# Altium schematic symbol library MCU_Intel.SchLib: 26 symbols
Pins are listed as number, name and electrical type; pins without a type are passive.

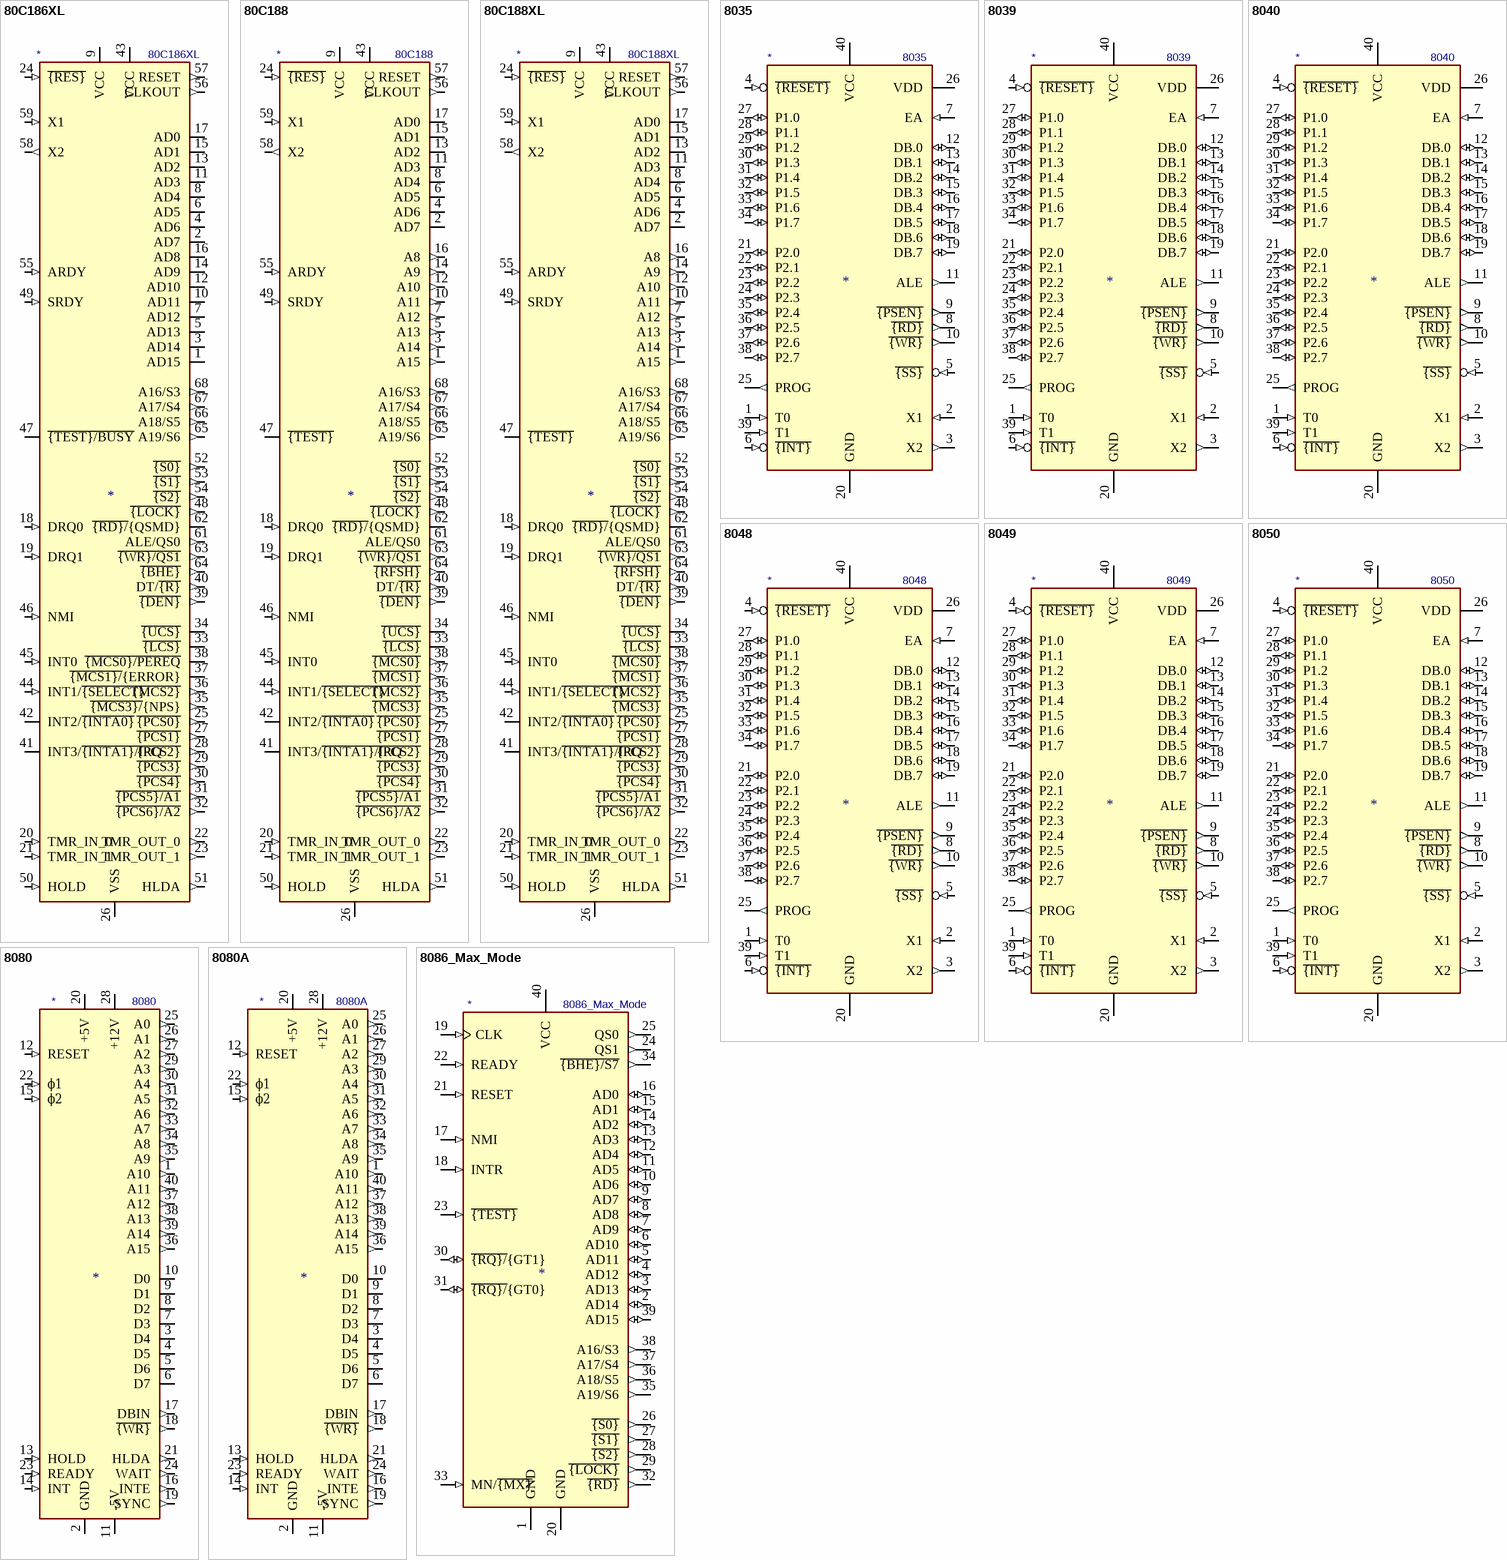
[diagram p0: symbols 80C186XL to 8086_Max_Mode]

## 80C186XL
designator *  value 80C186XL
ki_keywords: MPRO; ki_description: 16-Bit High-Integration Embedded Processor; ki_fp_filters: PLCC* PGA*Layout11x11*P2.54mm* LCC*; Supplier: http://datasheets.chipdb.org/Intel/x86/8018x/datashts/27243104.PDF
pins: 1 AD15 (io), 2 AD7 (io), 3 AD14 (io), 4 AD6 (io), 5 AD13 (io), 6 AD5 (io), 7 AD12 (io), 8 AD4 (io), 9 VCC (power), 10 AD11 (io), 11 AD3 (io), 12 AD10 (io), 13 AD2 (io), 14 AD9 (io), 15 AD1 (io), 16 AD8 (io), 17 AD0 (io), 18 DRQ0 (in), 19 DRQ1 (in), 20 TMR_IN_0 (in), 21 TMR_IN_1 (in), 22 TMR_OUT_0 (out), 23 TMR_OUT_1 (out), 24 ~{{RES}} (in), 25 ~{{PCS0}} (out), 26 VSS (power), 27 ~{{PCS1}} (out), 28 ~{{PCS2}} (out), 29 ~{{PCS3}} (out), 30 ~{{PCS4}} (out), 31 ~{{PCS5}/A1} (out), 32 ~{{PCS6}/A2} (out), 33 ~{{LCS}} (io), 34 ~{{UCS}} (io), 35 ~{{MCS3}/}{NPS} (out), 36 ~{{MCS2}} (out), 37 ~{{MCS1}/}{ERROR} (io), 38 ~{{MCS0}/PEREQ} (io), 39 ~{{DEN}} (out), 40 DT/~{{R}} (out), 41 INT3/~{{INTA1}/IRQ} (io), 42 INT2/~{{INTA0}} (io), 43 VCC (power), 44 INT1/~{{SELECT}} (in), 45 INT0 (in), 46 NMI (in), 47 ~{{TEST}/BUSY} (io), 48 ~{{LOCK}} (out), 49 SRDY (in), 50 HOLD (in), 51 HLDA (out), 52 ~{{S0}} (out), 53 ~{{S1}} (out), 54 ~{{S2}} (out), 55 ARDY (in), 56 CLKOUT (out), 57 RESET (out), 58 X2 (out), 59 X1 (in), 60 VSS hidden, 61 ALE/QS0 (out), 62 ~{{RD}/}{QSMD} (io), 63 ~{{WR}/QS1} (out), 64 ~{{BHE}} (out), 65 A19/S6 (out), 66 A18/S5 (out), 67 A17/S4 (out), 68 A16/S3 (out)

## 80C188
designator *  value 80C188
ki_keywords: MPRO; ki_description: CHMOS High-Integration 16-Bit Microprocessor; ki_fp_filters: PLCC* PGA*Layout11x11*P2.54mm* LCC*; Supplier: http://datasheets.chipdb.org/Intel/x86/8018x/datashts/80188/intel-80c188.pdf
pins: 1 A15 (out), 2 AD7 (io), 3 A14 (out), 4 AD6 (io), 5 A13 (out), 6 AD5 (io), 7 A12 (out), 8 AD4 (io), 9 VCC (power), 10 A11 (out), 11 AD3 (io), 12 A10 (out), 13 AD2 (io), 14 A9 (out), 15 AD1 (io), 16 A8 (out), 17 AD0 (io), 18 DRQ0 (in), 19 DRQ1 (in), 20 TMR_IN_0 (in), 21 TMR_IN_1 (in), 22 TMR_OUT_0 (out), 23 TMR_OUT_1 (out), 24 ~{{RES}} (in), 25 ~{{PCS0}} (out), 26 VSS (power), 27 ~{{PCS1}} (out), 28 ~{{PCS2}} (out), 29 ~{{PCS3}} (out), 30 ~{{PCS4}} (out), 31 ~{{PCS5}/A1} (out), 32 ~{{PCS6}/A2} (out), 33 ~{{LCS}} (io), 34 ~{{UCS}} (io), 35 ~{{MCS3}} (out), 36 ~{{MCS2}} (out), 37 ~{{MCS1}} (out), 38 ~{{MCS0}} (out), 39 ~{{DEN}} (out), 40 DT/~{{R}} (out), 41 INT3/~{{INTA1}/IRQ} (io), 42 INT2/~{{INTA0}} (io), 43 VCC (power), 44 INT1/~{{SELECT}} (in), 45 INT0 (in), 46 NMI (in), 47 ~{{TEST}} (io), 48 ~{{LOCK}} (out), 49 SRDY (in), 50 HOLD (in), 51 HLDA (out), 52 ~{{S0}} (out), 53 ~{{S1}} (out), 54 ~{{S2}} (out), 55 ARDY (in), 56 CLKOUT (out), 57 RESET (out), 58 X2 (out), 59 X1 (in), 60 VSS hidden, 61 ALE/QS0 (out), 62 ~{{RD}/}{QSMD} (io), 63 ~{{WR}/QS1} (out), 64 ~{{RFSH}} (out), 65 A19/S6 (out), 66 A18/S5 (out), 67 A17/S4 (out), 68 A16/S3 (out)

## 80C188XL
designator *  value 80C188XL
ki_keywords: MPRO; ki_description: 16-Bit High-Integration Embedded Processor; ki_fp_filters: PLCC* PGA*Layout11x11*P2.54mm* LCC*; Supplier: http://datasheets.chipdb.org/Intel/x86/8018x/datashts/27243104.PDF
pins: 1 A15 (out), 2 AD7 (io), 3 A14 (out), 4 AD6 (io), 5 A13 (out), 6 AD5 (io), 7 A12 (out), 8 AD4 (io), 9 VCC (power), 10 A11 (out), 11 AD3 (io), 12 A10 (out), 13 AD2 (io), 14 A9 (out), 15 AD1 (io), 16 A8 (out), 17 AD0 (io), 18 DRQ0 (in), 19 DRQ1 (in), 20 TMR_IN_0 (in), 21 TMR_IN_1 (in), 22 TMR_OUT_0 (out), 23 TMR_OUT_1 (out), 24 ~{{RES}} (in), 25 ~{{PCS0}} (out), 26 VSS (power), 27 ~{{PCS1}} (out), 28 ~{{PCS2}} (out), 29 ~{{PCS3}} (out), 30 ~{{PCS4}} (out), 31 ~{{PCS5}/A1} (out), 32 ~{{PCS6}/A2} (out), 33 ~{{LCS}} (io), 34 ~{{UCS}} (io), 35 ~{{MCS3}} (out), 36 ~{{MCS2}} (out), 37 ~{{MCS1}} (out), 38 ~{{MCS0}} (out), 39 ~{{DEN}} (out), 40 DT/~{{R}} (out), 41 INT3/~{{INTA1}/IRQ} (io), 42 INT2/~{{INTA0}} (io), 43 VCC (power), 44 INT1/~{{SELECT}} (in), 45 INT0 (in), 46 NMI (in), 47 ~{{TEST}} (io), 48 ~{{LOCK}} (out), 49 SRDY (in), 50 HOLD (in), 51 HLDA (out), 52 ~{{S0}} (out), 53 ~{{S1}} (out), 54 ~{{S2}} (out), 55 ARDY (in), 56 CLKOUT (out), 57 RESET (out), 58 X2 (out), 59 X1 (in), 60 VSS hidden, 61 ALE/QS0 (out), 62 ~{{RD}/}{QSMD} (io), 63 ~{{WR}/QS1} (out), 64 ~{{RFSH}} (out), 65 A19/S6 (out), 66 A18/S5 (out), 67 A17/S4 (out), 68 A16/S3 (out)

## 8035
designator *  value 8035
ki_keywords: MCS-48 uC Microcontroller; ki_description: MCS-48 8-bit Microcontroller, No (EP)ROM, 64B RAM, DIP-40; ki_fp_filters: DIP* PDIP*
pins: 1 T0 (in), 2 X1 (in), 3 X2 (out), 4 ~{{RESET}} (in), 5 ~{{SS}} (in), 6 ~{{INT}} (in), 7 EA (in), 8 ~{{RD}} (out), 9 ~{{PSEN}} (out), 10 ~{{WR}} (out), 11 ALE (out), 12 DB.0 (io), 13 DB.1 (io), 14 DB.2 (io), 15 DB.3 (io), 16 DB.4 (io), 17 DB.5 (io), 18 DB.6 (io), 19 DB.7 (io), 20 GND (power), 21 P2.0 (io), 22 P2.1 (io), 23 P2.2 (io), 24 P2.3 (io), 25 PROG (out), 26 VDD (power), 27 P1.0 (io), 28 P1.1 (io), 29 P1.2 (io), 30 P1.3 (io), 31 P1.4 (io), 32 P1.5 (io), 33 P1.6 (io), 34 P1.7 (io), 35 P2.4 (io), 36 P2.5 (io), 37 P2.6 (io), 38 P2.7 (io), 39 T1 (in), 40 VCC (power)

## 8039
designator *  value 8039
ki_keywords: MCS-48 uC Microcontroller; ki_description: MCS-48 8-bit Microcontroller, No (EP)ROM, 128B RAM, DIP-40; ki_fp_filters: DIP* PDIP*
pins: 1 T0 (in), 2 X1 (in), 3 X2 (out), 4 ~{{RESET}} (in), 5 ~{{SS}} (in), 6 ~{{INT}} (in), 7 EA (in), 8 ~{{RD}} (out), 9 ~{{PSEN}} (out), 10 ~{{WR}} (out), 11 ALE (out), 12 DB.0 (io), 13 DB.1 (io), 14 DB.2 (io), 15 DB.3 (io), 16 DB.4 (io), 17 DB.5 (io), 18 DB.6 (io), 19 DB.7 (io), 20 GND (power), 21 P2.0 (io), 22 P2.1 (io), 23 P2.2 (io), 24 P2.3 (io), 25 PROG (out), 26 VDD (power), 27 P1.0 (io), 28 P1.1 (io), 29 P1.2 (io), 30 P1.3 (io), 31 P1.4 (io), 32 P1.5 (io), 33 P1.6 (io), 34 P1.7 (io), 35 P2.4 (io), 36 P2.5 (io), 37 P2.6 (io), 38 P2.7 (io), 39 T1 (in), 40 VCC (power)

## 8040
designator *  value 8040
ki_keywords: MCS-48 uC Microcontroller; ki_description: MCS-48 8-bit Microcontroller, No (EP)ROM, 256B RAM, DIP-40; ki_fp_filters: DIP* PDIP*
pins: 1 T0 (in), 2 X1 (in), 3 X2 (out), 4 ~{{RESET}} (in), 5 ~{{SS}} (in), 6 ~{{INT}} (in), 7 EA (in), 8 ~{{RD}} (out), 9 ~{{PSEN}} (out), 10 ~{{WR}} (out), 11 ALE (out), 12 DB.0 (io), 13 DB.1 (io), 14 DB.2 (io), 15 DB.3 (io), 16 DB.4 (io), 17 DB.5 (io), 18 DB.6 (io), 19 DB.7 (io), 20 GND (power), 21 P2.0 (io), 22 P2.1 (io), 23 P2.2 (io), 24 P2.3 (io), 25 PROG (out), 26 VDD (power), 27 P1.0 (io), 28 P1.1 (io), 29 P1.2 (io), 30 P1.3 (io), 31 P1.4 (io), 32 P1.5 (io), 33 P1.6 (io), 34 P1.7 (io), 35 P2.4 (io), 36 P2.5 (io), 37 P2.6 (io), 38 P2.7 (io), 39 T1 (in), 40 VCC (power)

## 8048
designator *  value 8048
ki_keywords: MCS-48 uC Microcontroller; ki_description: MCS-48 8-bit Microcontroller, 1KB Mask ROM, 64B RAM, DIP-40; ki_fp_filters: DIP* PDIP*
pins: 1 T0 (in), 2 X1 (in), 3 X2 (out), 4 ~{{RESET}} (in), 5 ~{{SS}} (in), 6 ~{{INT}} (in), 7 EA (in), 8 ~{{RD}} (out), 9 ~{{PSEN}} (out), 10 ~{{WR}} (out), 11 ALE (out), 12 DB.0 (io), 13 DB.1 (io), 14 DB.2 (io), 15 DB.3 (io), 16 DB.4 (io), 17 DB.5 (io), 18 DB.6 (io), 19 DB.7 (io), 20 GND (power), 21 P2.0 (io), 22 P2.1 (io), 23 P2.2 (io), 24 P2.3 (io), 25 PROG (out), 26 VDD (power), 27 P1.0 (io), 28 P1.1 (io), 29 P1.2 (io), 30 P1.3 (io), 31 P1.4 (io), 32 P1.5 (io), 33 P1.6 (io), 34 P1.7 (io), 35 P2.4 (io), 36 P2.5 (io), 37 P2.6 (io), 38 P2.7 (io), 39 T1 (in), 40 VCC (power)

## 8049
designator *  value 8049
ki_keywords: MCS-48 uC Microcontroller; ki_description: MCS-48 8-bit Microcontroller, 2KB Mask ROM, 128B RAM, DIP-40; ki_fp_filters: DIP* PDIP*
pins: 1 T0 (in), 2 X1 (in), 3 X2 (out), 4 ~{{RESET}} (in), 5 ~{{SS}} (in), 6 ~{{INT}} (in), 7 EA (in), 8 ~{{RD}} (out), 9 ~{{PSEN}} (out), 10 ~{{WR}} (out), 11 ALE (out), 12 DB.0 (io), 13 DB.1 (io), 14 DB.2 (io), 15 DB.3 (io), 16 DB.4 (io), 17 DB.5 (io), 18 DB.6 (io), 19 DB.7 (io), 20 GND (power), 21 P2.0 (io), 22 P2.1 (io), 23 P2.2 (io), 24 P2.3 (io), 25 PROG (out), 26 VDD (power), 27 P1.0 (io), 28 P1.1 (io), 29 P1.2 (io), 30 P1.3 (io), 31 P1.4 (io), 32 P1.5 (io), 33 P1.6 (io), 34 P1.7 (io), 35 P2.4 (io), 36 P2.5 (io), 37 P2.6 (io), 38 P2.7 (io), 39 T1 (in), 40 VCC (power)

## 8050
designator *  value 8050
ki_keywords: MCS-48 uC Microcontroller; ki_description: MCS-48 8-bit Microcontroller, 4KB Mask ROM, 256B RAM, DIP-40; ki_fp_filters: DIP* PDIP*
pins: 1 T0 (in), 2 X1 (in), 3 X2 (out), 4 ~{{RESET}} (in), 5 ~{{SS}} (in), 6 ~{{INT}} (in), 7 EA (in), 8 ~{{RD}} (out), 9 ~{{PSEN}} (out), 10 ~{{WR}} (out), 11 ALE (out), 12 DB.0 (io), 13 DB.1 (io), 14 DB.2 (io), 15 DB.3 (io), 16 DB.4 (io), 17 DB.5 (io), 18 DB.6 (io), 19 DB.7 (io), 20 GND (power), 21 P2.0 (io), 22 P2.1 (io), 23 P2.2 (io), 24 P2.3 (io), 25 PROG (out), 26 VDD (power), 27 P1.0 (io), 28 P1.1 (io), 29 P1.2 (io), 30 P1.3 (io), 31 P1.4 (io), 32 P1.5 (io), 33 P1.6 (io), 34 P1.7 (io), 35 P2.4 (io), 36 P2.5 (io), 37 P2.6 (io), 38 P2.7 (io), 39 T1 (in), 40 VCC (power)

## 8080
designator *  value 8080
ki_keywords: cpu mpu microprocessor; ki_description: 8-bit N-channel Microprocessor, DIP-40; ki_fp_filters: DIP*W15.24*; Footprint: Package_DIP:DIP-40_W15.24mm; Supplier: http://datasheets.chipdb.org/Intel/MCS-80/intel-8080.pdf
footprint DIP-40_W15.24mm
pins: 1 A10 (out), 2 GND (power), 3 D4 (io), 4 D5 (io), 5 D6 (io), 6 D7 (io), 7 D3 (io), 8 D2 (io), 9 D1 (io), 10 D0 (io), 11 -5V (power), 12 RESET (in), 13 HOLD (in), 14 INT (in), 15 ϕ2 (in), 16 INTE (out), 17 DBIN (out), 18 ~{{WR}} (out), 19 SYNC (out), 20 +5V (power), 21 HLDA (out), 22 ϕ1 (in), 23 READY (in), 24 WAIT (out), 25 A0 (out), 26 A1 (out), 27 A2 (out), 28 +12V (power), 29 A3 (out), 30 A4 (out), 31 A5 (out), 32 A6 (out), 33 A7 (out), 34 A8 (out), 35 A9 (out), 36 A15 (out), 37 A12 (out), 38 A13 (out), 39 A14 (out), 40 A11 (out)

## 8080A
designator *  value 8080A
ki_keywords: cpu mpu microprocessor; ki_description: 8-bit N-channel Microprocessor, DIP-40; ki_fp_filters: DIP*W15.24*; Footprint: Package_DIP:DIP-40_W15.24mm; Supplier: http://datasheets.chipdb.org/Intel/MCS-80/intel-8080.pdf
footprint DIP-40_W15.24mm
pins: 1 A10 (out), 2 GND (power), 3 D4 (io), 4 D5 (io), 5 D6 (io), 6 D7 (io), 7 D3 (io), 8 D2 (io), 9 D1 (io), 10 D0 (io), 11 -5V (power), 12 RESET (in), 13 HOLD (in), 14 INT (in), 15 ϕ2 (in), 16 INTE (out), 17 DBIN (out), 18 ~{{WR}} (out), 19 SYNC (out), 20 +5V (power), 21 HLDA (out), 22 ϕ1 (in), 23 READY (in), 24 WAIT (out), 25 A0 (out), 26 A1 (out), 27 A2 (out), 28 +12V (power), 29 A3 (out), 30 A4 (out), 31 A5 (out), 32 A6 (out), 33 A7 (out), 34 A8 (out), 35 A9 (out), 36 A15 (out), 37 A12 (out), 38 A13 (out), 39 A14 (out), 40 A11 (out)

## 8086_Max_Mode
designator *  value 8086_Max_Mode
ki_keywords: MPRO; ki_description: 8086 (maximum mode), 16-Bit HMOS Microprocessor, PDIP-40; ki_fp_filters: DIP*W15.24mm*; Footprint: Package_DIP:DIP-40_W15.24mm; Supplier: http://datasheets.chipdb.org/Intel/x86/808x/datashts/8086/231455-006.pdf
footprint DIP-40_W15.24mm
pins: 1 GND (power), 2 AD14 (io), 3 AD13 (io), 4 AD12 (io), 5 AD11 (io), 6 AD10 (io), 7 AD9 (io), 8 AD8 (io), 9 AD7 (io), 10 AD6 (io), 11 AD5 (io), 12 AD4 (io), 13 AD3 (io), 14 AD2 (io), 15 AD1 (io), 16 AD0 (io), 17 NMI (in), 18 INTR (in), 19 CLK (in), 20 GND (power), 21 RESET (in), 22 READY (in), 23 ~{{TEST}} (in), 24 QS1 (out), 25 QS0 (out), 26 ~{{S0}} (out), 27 ~{{S1}} (out), 28 ~{{S2}} (out), 29 ~{{LOCK}} (out), 30 ~{{RQ}/}{GT1} (io), 31 ~{{RQ}/}{GT0} (io), 32 ~{{RD}} (out), 33 MN/~{{MX}} (in), 34 ~{{BHE}/S7} (out), 35 A19/S6 (out), 36 A18/S5 (out), 37 A17/S4 (out), 38 A16/S3 (out), 39 AD15 (io), 40 VCC (power)

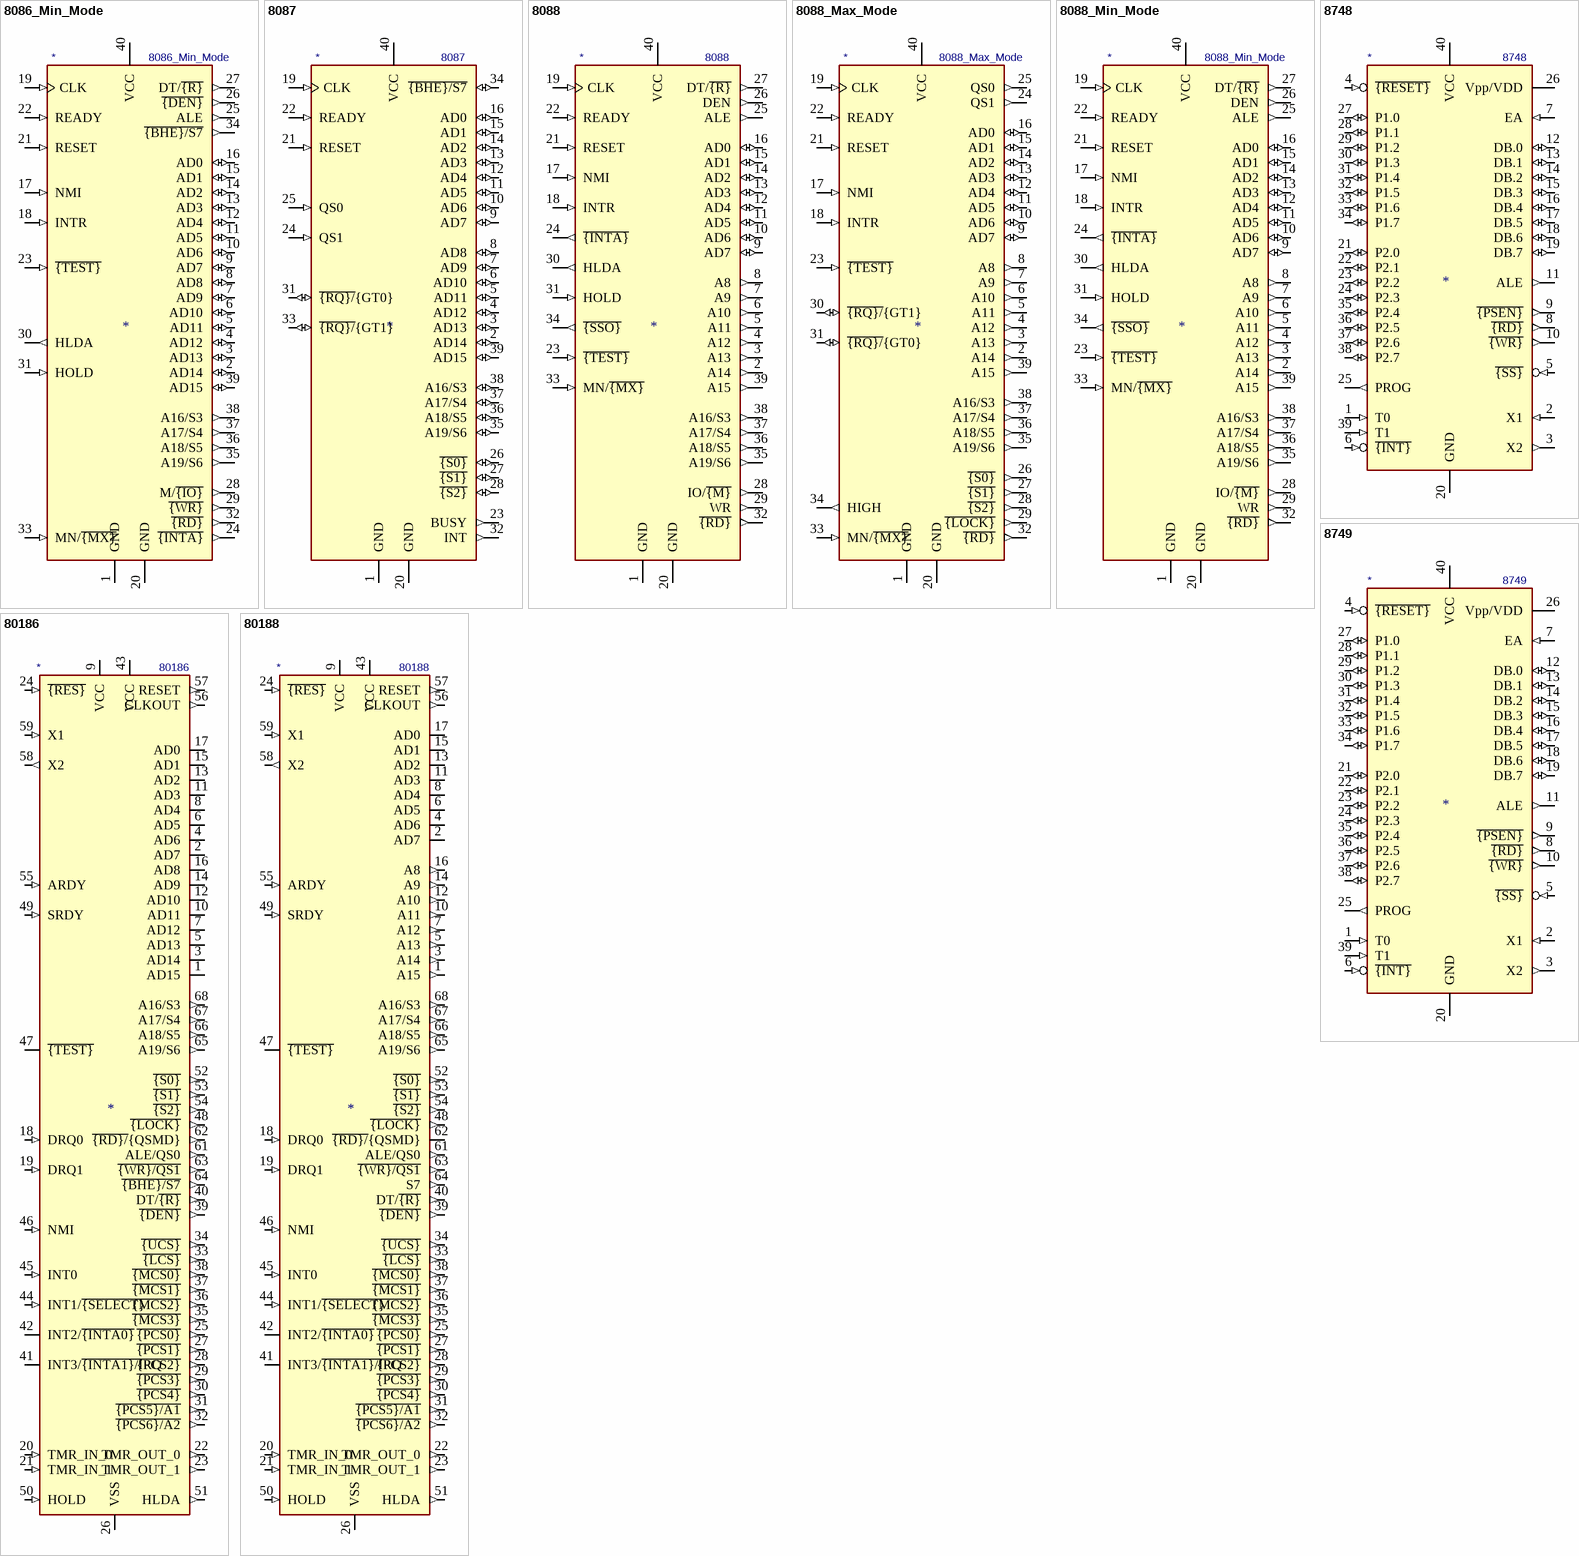
[diagram p1: symbols 8086_Min_Mode to 80188]

## 8086_Min_Mode
designator *  value 8086_Min_Mode
ki_keywords: MPRO; ki_description: 8086 (minimum mode), 16-Bit HMOS Microprocessor, PDIP-40; ki_fp_filters: DIP*W15.24mm*; Footprint: Package_DIP:DIP-40_W15.24mm; Supplier: http://datasheets.chipdb.org/Intel/x86/808x/datashts/8086/231455-006.pdf
footprint DIP-40_W15.24mm
pins: 1 GND (power), 2 AD14 (io), 3 AD13 (io), 4 AD12 (io), 5 AD11 (io), 6 AD10 (io), 7 AD9 (io), 8 AD8 (io), 9 AD7 (io), 10 AD6 (io), 11 AD5 (io), 12 AD4 (io), 13 AD3 (io), 14 AD2 (io), 15 AD1 (io), 16 AD0 (io), 17 NMI (in), 18 INTR (in), 19 CLK (in), 20 GND (power), 21 RESET (in), 22 READY (in), 23 ~{{TEST}} (in), 24 ~{{INTA}} (out), 25 ALE (out), 26 ~{{DEN}} (out), 27 DT/~{{R}} (out), 28 M/~{{IO}} (out), 29 ~{{WR}} (out), 30 HLDA (out), 31 HOLD (in), 32 ~{{RD}} (out), 33 MN/~{{MX}} (in), 34 ~{{BHE}/S7} (out), 35 A19/S6 (out), 36 A18/S5 (out), 37 A17/S4 (out), 38 A16/S3 (out), 39 AD15 (io), 40 VCC (power)

## 8087
designator *  value 8087
ki_keywords: FPU; ki_description: Math Coprocessor for Intel 8086/8088/80186/80188 microprocessors, PDIP-40; ki_fp_filters: DIP*W15.24mm*; Footprint: Package_DIP:DIP-40_W15.24mm; Supplier: http://datasheets.chipdb.org/Intel/x86/808x/datashts/8087/205835-007.pdf
footprint DIP-40_W15.24mm
pins: 1 GND (power), 2 AD14 (io), 3 AD13 (io), 4 AD12 (io), 5 AD11 (io), 6 AD10 (io), 7 AD9 (io), 8 AD8 (io), 9 AD7 (io), 10 AD6 (io), 11 AD5 (io), 12 AD4 (io), 13 AD3 (io), 14 AD2 (io), 15 AD1 (io), 16 AD0 (io), 17 NC (in) hidden, 18 NC (in) hidden, 19 CLK (in), 20 GND (power), 21 RESET (in), 22 READY (in), 23 BUSY (out), 24 QS1 (in), 25 QS0 (in), 26 ~{{S0}} (io), 27 ~{{S1}} (io), 28 ~{{S2}} (io), 29 NC (in) hidden, 30 NC (in) hidden, 31 ~{{RQ}/}{GT0} (io), 32 INT (out), 33 ~{{RQ}/}{GT1} (io), 34 ~{{BHE}/S7} (io), 35 A19/S6 (io), 36 A18/S5 (io), 37 A17/S4 (io), 38 A16/S3 (io), 39 AD15 (io), 40 VCC (power)

## 8088
designator *  value 8088
ki_keywords: MPRO; ki_description: 8088 (minimum mode), 8-Bit HMOS Microprocessor, PDIP-40; ki_fp_filters: DIP*W15.24mm*; Footprint: Package_DIP:DIP-40_W15.24mm; Supplier: http://datasheets.chipdb.org/Intel/x86/808x/datashts/8088/231456-006.pdf
footprint DIP-40_W15.24mm
pins: 1 GND (power), 2 A14 (out), 3 A13 (out), 4 A12 (out), 5 A11 (out), 6 A10 (out), 7 A9 (out), 8 A8 (out), 9 AD7 (io), 10 AD6 (io), 11 AD5 (io), 12 AD4 (io), 13 AD3 (io), 14 AD2 (io), 15 AD1 (io), 16 AD0 (io), 17 NMI (in), 18 INTR (in), 19 CLK (in), 20 GND (power), 21 RESET (in), 22 READY (in), 23 ~{{TEST}} (in), 24 ~{{INTA}} (out), 25 ALE (out), 26 DEN (out), 27 DT/~{{R}} (out), 28 IO/~{{M}} (out), 29 WR (out), 30 HLDA (out), 31 HOLD (in), 32 ~{{RD}} (out), 33 MN/~{{MX}} (in), 34 ~{{SSO}} (out), 35 A19/S6 (out), 36 A18/S5 (out), 37 A17/S4 (out), 38 A16/S3 (out), 39 A15 (out), 40 VCC (power)

## 8088_Max_Mode
designator *  value 8088_Max_Mode
ki_keywords: MPRO; ki_description: 8088 (maximum mode), 8-Bit HMOS Microprocessor, PDIP-40; ki_fp_filters: DIP*W15.24mm*; Footprint: Package_DIP:DIP-40_W15.24mm; Supplier: http://datasheets.chipdb.org/Intel/x86/808x/datashts/8088/231456-006.pdf
footprint DIP-40_W15.24mm
pins: 1 GND (power), 2 A14 (out), 3 A13 (out), 4 A12 (out), 5 A11 (out), 6 A10 (out), 7 A9 (out), 8 A8 (out), 9 AD7 (io), 10 AD6 (io), 11 AD5 (io), 12 AD4 (io), 13 AD3 (io), 14 AD2 (io), 15 AD1 (io), 16 AD0 (io), 17 NMI (in), 18 INTR (in), 19 CLK (in), 20 GND (power), 21 RESET (in), 22 READY (in), 23 ~{{TEST}} (in), 24 QS1 (out), 25 QS0 (out), 26 ~{{S0}} (out), 27 ~{{S1}} (out), 28 ~{{S2}} (out), 29 ~{{LOCK}} (out), 30 ~{{RQ}/}{GT1} (io), 31 ~{{RQ}/}{GT0} (io), 32 ~{{RD}} (out), 33 MN/~{{MX}} (in), 34 HIGH (out), 35 A19/S6 (out), 36 A18/S5 (out), 37 A17/S4 (out), 38 A16/S3 (out), 39 A15 (out), 40 VCC (power)

## 8088_Min_Mode
designator *  value 8088_Min_Mode
ki_keywords: MPRO; ki_description: 8088 (minimum mode), 8-Bit HMOS Microprocessor, PDIP-40; ki_fp_filters: DIP*W15.24mm*; Footprint: Package_DIP:DIP-40_W15.24mm; Supplier: http://datasheets.chipdb.org/Intel/x86/808x/datashts/8088/231456-006.pdf
footprint DIP-40_W15.24mm
pins: 1 GND (power), 2 A14 (out), 3 A13 (out), 4 A12 (out), 5 A11 (out), 6 A10 (out), 7 A9 (out), 8 A8 (out), 9 AD7 (io), 10 AD6 (io), 11 AD5 (io), 12 AD4 (io), 13 AD3 (io), 14 AD2 (io), 15 AD1 (io), 16 AD0 (io), 17 NMI (in), 18 INTR (in), 19 CLK (in), 20 GND (power), 21 RESET (in), 22 READY (in), 23 ~{{TEST}} (in), 24 ~{{INTA}} (out), 25 ALE (out), 26 DEN (out), 27 DT/~{{R}} (out), 28 IO/~{{M}} (out), 29 WR (out), 30 HLDA (out), 31 HOLD (in), 32 ~{{RD}} (out), 33 MN/~{{MX}} (in), 34 ~{{SSO}} (out), 35 A19/S6 (out), 36 A18/S5 (out), 37 A17/S4 (out), 38 A16/S3 (out), 39 A15 (out), 40 VCC (power)

## 8748
designator *  value 8748
ki_keywords: MCS-48 uC Microcontroller; ki_description: i8748, MCS-48 8-bit Microcontroller with Internal EPROM, 1KB EPROM, 64B RAM, DIP-40; ki_fp_filters: DIP* PDIP*
pins: 1 T0 (in), 2 X1 (in), 3 X2 (out), 4 ~{{RESET}} (in), 5 ~{{SS}} (in), 6 ~{{INT}} (in), 7 EA (in), 8 ~{{RD}} (out), 9 ~{{PSEN}} (out), 10 ~{{WR}} (out), 11 ALE (out), 12 DB.0 (io), 13 DB.1 (io), 14 DB.2 (io), 15 DB.3 (io), 16 DB.4 (io), 17 DB.5 (io), 18 DB.6 (io), 19 DB.7 (io), 20 GND (power), 21 P2.0 (io), 22 P2.1 (io), 23 P2.2 (io), 24 P2.3 (io), 25 PROG (out), 26 Vpp/VDD (power), 27 P1.0 (io), 28 P1.1 (io), 29 P1.2 (io), 30 P1.3 (io), 31 P1.4 (io), 32 P1.5 (io), 33 P1.6 (io), 34 P1.7 (io), 35 P2.4 (io), 36 P2.5 (io), 37 P2.6 (io), 38 P2.7 (io), 39 T1 (in), 40 VCC (power)

## 8749
designator *  value 8749
ki_keywords: MCS-48 uC Microcontroller; ki_description: i8748, MCS-48 8-bit Microcontroller with Internal EPROM, 2KB EPROM, 128B RAM, DIP-40; ki_fp_filters: DIP* PDIP*
pins: 1 T0 (in), 2 X1 (in), 3 X2 (out), 4 ~{{RESET}} (in), 5 ~{{SS}} (in), 6 ~{{INT}} (in), 7 EA (in), 8 ~{{RD}} (out), 9 ~{{PSEN}} (out), 10 ~{{WR}} (out), 11 ALE (out), 12 DB.0 (io), 13 DB.1 (io), 14 DB.2 (io), 15 DB.3 (io), 16 DB.4 (io), 17 DB.5 (io), 18 DB.6 (io), 19 DB.7 (io), 20 GND (power), 21 P2.0 (io), 22 P2.1 (io), 23 P2.2 (io), 24 P2.3 (io), 25 PROG (out), 26 Vpp/VDD (power), 27 P1.0 (io), 28 P1.1 (io), 29 P1.2 (io), 30 P1.3 (io), 31 P1.4 (io), 32 P1.5 (io), 33 P1.6 (io), 34 P1.7 (io), 35 P2.4 (io), 36 P2.5 (io), 37 P2.6 (io), 38 P2.7 (io), 39 T1 (in), 40 VCC (power)

## 80186
designator *  value 80186
ki_keywords: MPRO; ki_description: High-Integration 16-Bit Microprocessor; ki_fp_filters: PLCC* PGA*Layout11x11*P2.54mm* LCC*; Supplier: http://datasheets.chipdb.org/Intel/x86/8018x/datashts/27243002.PDF
pins: 1 AD15 (io), 2 AD7 (io), 3 AD14 (io), 4 AD6 (io), 5 AD13 (io), 6 AD5 (io), 7 AD12 (io), 8 AD4 (io), 9 VCC (power), 10 AD11 (io), 11 AD3 (io), 12 AD10 (io), 13 AD2 (io), 14 AD9 (io), 15 AD1 (io), 16 AD8 (io), 17 AD0 (io), 18 DRQ0 (in), 19 DRQ1 (in), 20 TMR_IN_0 (in), 21 TMR_IN_1 (in), 22 TMR_OUT_0 (out), 23 TMR_OUT_1 (out), 24 ~{{RES}} (in), 25 ~{{PCS0}} (out), 26 VSS (power), 27 ~{{PCS1}} (out), 28 ~{{PCS2}} (out), 29 ~{{PCS3}} (out), 30 ~{{PCS4}} (out), 31 ~{{PCS5}/A1} (out), 32 ~{{PCS6}/A2} (out), 33 ~{{LCS}} (out), 34 ~{{UCS}} (out), 35 ~{{MCS3}} (out), 36 ~{{MCS2}} (out), 37 ~{{MCS1}} (out), 38 ~{{MCS0}} (out), 39 ~{{DEN}} (out), 40 DT/~{{R}} (out), 41 INT3/~{{INTA1}/IRQ} (io), 42 INT2/~{{INTA0}} (io), 43 VCC (power), 44 INT1/~{{SELECT}} (in), 45 INT0 (in), 46 NMI (in), 47 ~{{TEST}} (io), 48 ~{{LOCK}} (out), 49 SRDY (in), 50 HOLD (in), 51 HLDA (out), 52 ~{{S0}} (out), 53 ~{{S1}} (out), 54 ~{{S2}} (out), 55 ARDY (in), 56 CLKOUT (out), 57 RESET (out), 58 X2 (out), 59 X1 (in), 60 VSS hidden, 61 ALE/QS0 (out), 62 ~{{RD}/}{QSMD} (out), 63 ~{{WR}/QS1} (out), 64 ~{{BHE}/S7} (out), 65 A19/S6 (out), 66 A18/S5 (out), 67 A17/S4 (out), 68 A16/S3 (out)

## 80188
designator *  value 80188
ki_keywords: MPRO; ki_description: High-Integration 16-Bit Microprocessor; ki_fp_filters: PLCC* PGA*Layout11x11*P2.54mm* LCC*; Supplier: http://datasheets.chipdb.org/Intel/x86/8018x/datashts/27243002.PDF
pins: 1 A15 (out), 2 AD7 (io), 3 A14 (out), 4 AD6 (io), 5 A13 (out), 6 AD5 (io), 7 A12 (out), 8 AD4 (io), 9 VCC (power), 10 A11 (out), 11 AD3 (io), 12 A10 (out), 13 AD2 (io), 14 A9 (out), 15 AD1 (io), 16 A8 (out), 17 AD0 (io), 18 DRQ0 (in), 19 DRQ1 (in), 20 TMR_IN_0 (in), 21 TMR_IN_1 (in), 22 TMR_OUT_0 (out), 23 TMR_OUT_1 (out), 24 ~{{RES}} (in), 25 ~{{PCS0}} (out), 26 VSS (power), 27 ~{{PCS1}} (out), 28 ~{{PCS2}} (out), 29 ~{{PCS3}} (out), 30 ~{{PCS4}} (out), 31 ~{{PCS5}/A1} (out), 32 ~{{PCS6}/A2} (out), 33 ~{{LCS}} (out), 34 ~{{UCS}} (out), 35 ~{{MCS3}} (out), 36 ~{{MCS2}} (out), 37 ~{{MCS1}} (out), 38 ~{{MCS0}} (out), 39 ~{{DEN}} (out), 40 DT/~{{R}} (out), 41 INT3/~{{INTA1}/IRQ} (io), 42 INT2/~{{INTA0}} (io), 43 VCC (power), 44 INT1/~{{SELECT}} (in), 45 INT0 (in), 46 NMI (in), 47 ~{{TEST}} (io), 48 ~{{LOCK}} (out), 49 SRDY (in), 50 HOLD (in), 51 HLDA (out), 52 ~{{S0}} (out), 53 ~{{S1}} (out), 54 ~{{S2}} (out), 55 ARDY (in), 56 CLKOUT (out), 57 RESET (out), 58 X2 (out), 59 X1 (in), 60 VSS hidden, 61 ALE/QS0 (out), 62 ~{{RD}/}{QSMD} (io), 63 ~{{WR}/QS1} (out), 64 S7 (out), 65 A19/S6 (out), 66 A18/S5 (out), 67 A17/S4 (out), 68 A16/S3 (out)

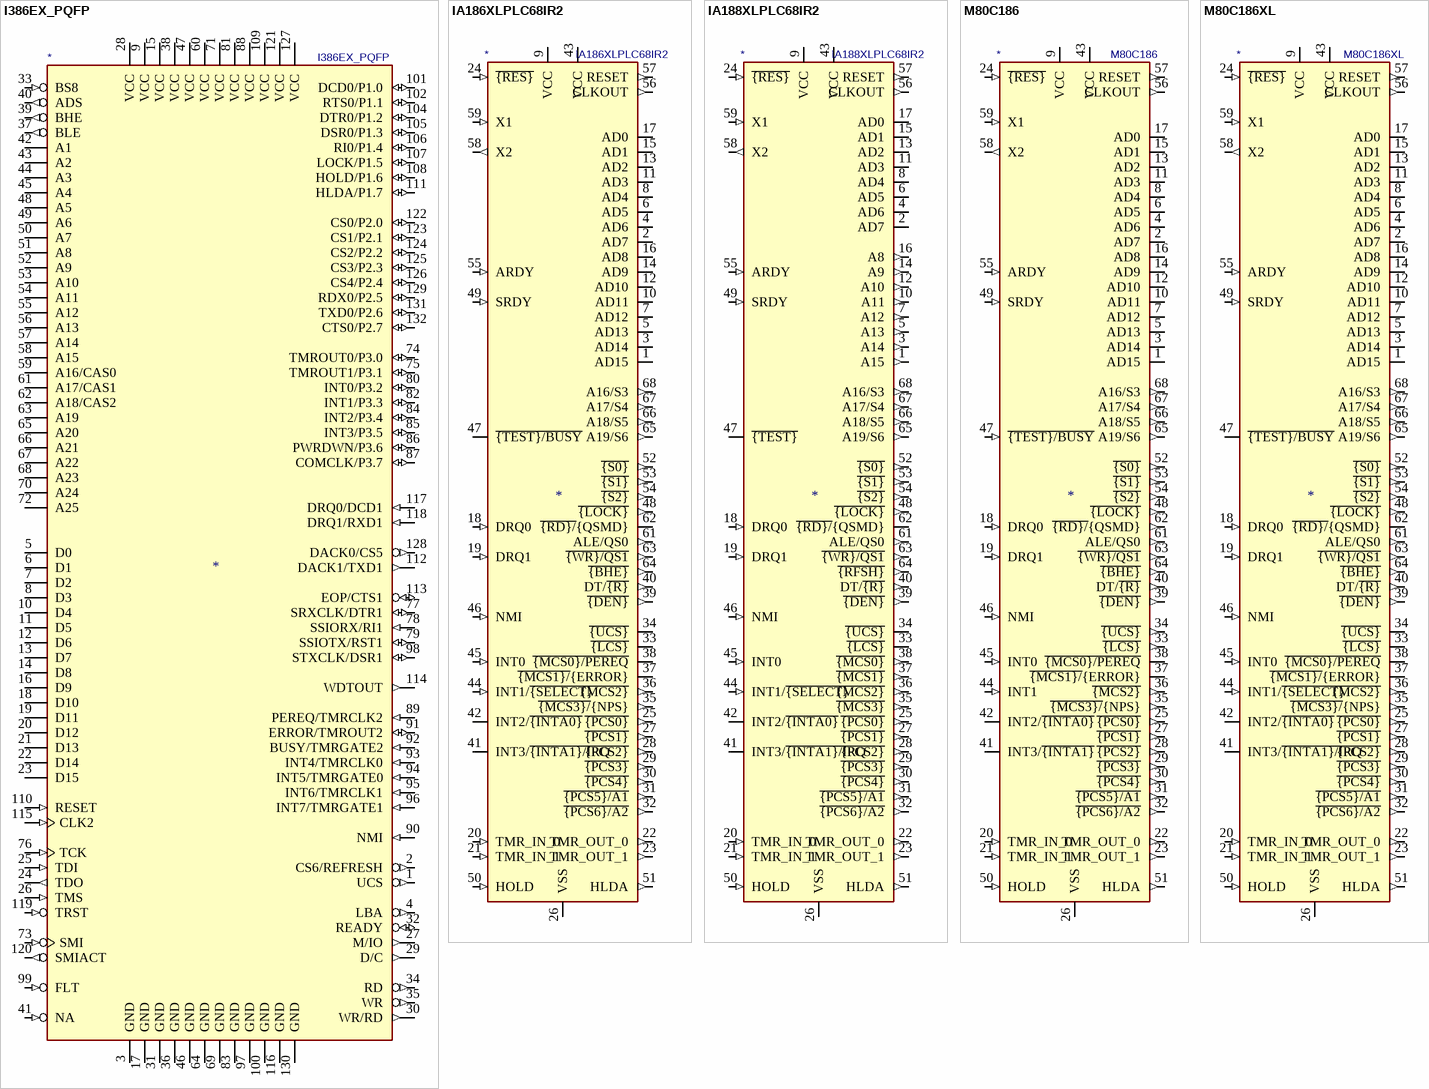
[diagram p2: symbols I386EX_PQFP to M80C186XL]

## I386EX_PQFP
designator *  value I386EX_PQFP
ki_keywords: MPRO; ki_description: Intel I386EX Embedded microprocessor, PQFP-132; ki_fp_filters: PQFP*
pins: 1 UCS (out), 2 CS6/REFRESH (out), 3 GND (power), 4 LBA (out), 5 D0 (hiz), 6 D1 (hiz), 7 D2 (hiz), 8 D3 (hiz), 9 VCC (power), 10 D4 (hiz), 11 D5 (hiz), 12 D6 (hiz), 13 D7 (hiz), 14 D8 (hiz), 15 VCC (power), 16 D9 (hiz), 17 GND (power), 18 D10 (hiz), 19 D11 (hiz), 20 D12 (hiz), 21 D13 (hiz), 22 D14 (hiz), 23 D15 (hiz), 24 TDO (out), 25 TDI (in), 26 TMS (in), 27 M/IO (out), 28 VCC (power), 29 D/C (out), 30 WR/RD (out), 31 GND (power), 32 READY (io), 33 BS8 (in), 34 RD (out), 35 WR (out), 36 GND (power), 37 BLE (out), 38 VCC (power), 39 BHE (out), 40 ADS (out), 41 NA (in), 42 A1 (hiz), 43 A2 (hiz), 44 A3 (hiz), 45 A4 (hiz), 46 GND (power), 47 VCC (power), 48 A5 (hiz), 49 A6 (hiz), 50 A7 (hiz), 51 A8 (hiz), 52 A9 (hiz), 53 A10 (hiz), 54 A11 (hiz), 55 A12 (hiz), 56 A13 (hiz), 57 A14 (hiz), 58 A15 (hiz), 59 A16/CAS0 (hiz), 60 VCC (power), 61 A17/CAS1 (hiz), 62 A18/CAS2 (hiz), 63 A19 (hiz), 64 GND (power), 65 A20 (hiz), 66 A21 (hiz), 67 A22 (hiz), 68 A23 (hiz), 69 GND (power), 70 A24 (hiz), 71 VCC (power), 72 A25 (hiz), 73 SMI (in), 74 TMROUT0/P3.0 (io), 75 TMROUT1/P3.1 (io), 76 TCK (in), 77 SRXCLK/DTR1 (io), 78 SSIORX/RI1 (in), 79 SSIOTX/RST1 (io), 80 INT0/P3.2 (io), 81 VCC (power), 82 INT1/P3.3 (io), 83 GND (power), 84 INT2/P3.4 (io), 85 INT3/P3.5 (io), 86 PWRDWN/P3.6 (io), 87 COMCLK/P3.7 (io), 88 VCC (power), 89 PEREQ/TMRCLK2 (in), 90 NMI (in), 91 ERROR/TMROUT2 (io), 92 BUSY/TMRGATE2 (in), 93 INT4/TMRCLK0 (in), 94 INT5/TMRGATE0 (in), 95 INT6/TMRCLK1 (in), 96 INT7/TMRGATE1 (in), 97 GND (power), 98 STXCLK/DSR1 (io), 99 FLT (in), 100 GND (power), 101 DCD0/P1.0 (io), 102 RTS0/P1.1 (io), 104 DTR0/P1.2 (io), 105 DSR0/P1.3 (io), 106 RI0/P1.4 (io), 107 LOCK/P1.5 (io), 108 HOLD/P1.6 (io), 109 VCC (power), 110 RESET (in), 111 HLDA/P1.7 (io), 112 DACK1/TXD1 (out), 113 EOP/CTS1 (io), 114 WDTOUT (out), 115 CLK2 (in), 116 GND (power), 117 DRQ0/DCD1 (in), 118 DRQ1/RXD1 (in), 119 TRST (in), 120 SMIACT (out), 121 VCC (power), 122 CS0/P2.0 (io), 123 CS1/P2.1 (io), 124 CS2/P2.2 (io), 125 CS3/P2.3 (io), 126 CS4/P2.4 (io), 127 VCC (power), 128 DACK0/CS5 (out), 129 RDX0/P2.5 (io), 130 GND (power), 131 TXD0/P2.6 (io), 132 CTS0/P2.7 (io)

## IA186XLPLC68IR2
designator *  value IA186XLPLC68IR2
ki_keywords: MPRO; ki_description: MCU Replacement for Intel 80C186XL; ki_fp_filters: PLCC* PGA*Layout11x11*P2.54mm* LCC*; Supplier: http://www.innovasic.com/upload/products/Innovasic_IA186XL_IA188XL_Data_Sheet_20110706_2.pdf
pins: 1 AD15 (io), 2 AD7 (io), 3 AD14 (io), 4 AD6 (io), 5 AD13 (io), 6 AD5 (io), 7 AD12 (io), 8 AD4 (io), 9 VCC (power), 10 AD11 (io), 11 AD3 (io), 12 AD10 (io), 13 AD2 (io), 14 AD9 (io), 15 AD1 (io), 16 AD8 (io), 17 AD0 (io), 18 DRQ0 (in), 19 DRQ1 (in), 20 TMR_IN_0 (in), 21 TMR_IN_1 (in), 22 TMR_OUT_0 (out), 23 TMR_OUT_1 (out), 24 ~{{RES}} (in), 25 ~{{PCS0}} (out), 26 VSS (power), 27 ~{{PCS1}} (out), 28 ~{{PCS2}} (out), 29 ~{{PCS3}} (out), 30 ~{{PCS4}} (out), 31 ~{{PCS5}/A1} (out), 32 ~{{PCS6}/A2} (out), 33 ~{{LCS}} (io), 34 ~{{UCS}} (io), 35 ~{{MCS3}/}{NPS} (out), 36 ~{{MCS2}} (out), 37 ~{{MCS1}/}{ERROR} (io), 38 ~{{MCS0}/PEREQ} (io), 39 ~{{DEN}} (out), 40 DT/~{{R}} (out), 41 INT3/~{{INTA1}/IRQ} (io), 42 INT2/~{{INTA0}} (io), 43 VCC (power), 44 INT1/~{{SELECT}} (in), 45 INT0 (in), 46 NMI (in), 47 ~{{TEST}/BUSY} (io), 48 ~{{LOCK}} (out), 49 SRDY (in), 50 HOLD (in), 51 HLDA (out), 52 ~{{S0}} (out), 53 ~{{S1}} (out), 54 ~{{S2}} (out), 55 ARDY (in), 56 CLKOUT (out), 57 RESET (out), 58 X2 (out), 59 X1 (in), 60 VSS hidden, 61 ALE/QS0 (out), 62 ~{{RD}/}{QSMD} (io), 63 ~{{WR}/QS1} (out), 64 ~{{BHE}} (out), 65 A19/S6 (out), 66 A18/S5 (out), 67 A17/S4 (out), 68 A16/S3 (out)

## IA188XLPLC68IR2
designator *  value IA188XLPLC68IR2
ki_keywords: MPRO; ki_description: MCU Replacement for Intel 80C188XL; ki_fp_filters: PLCC* PGA*Layout11x11*P2.54mm* LCC*; Supplier: http://www.innovasic.com/upload/products/Innovasic_IA186XL_IA188XL_Data_Sheet_20110706_2.pdf
pins: 1 A15 (out), 2 AD7 (io), 3 A14 (out), 4 AD6 (io), 5 A13 (out), 6 AD5 (io), 7 A12 (out), 8 AD4 (io), 9 VCC (power), 10 A11 (out), 11 AD3 (io), 12 A10 (out), 13 AD2 (io), 14 A9 (out), 15 AD1 (io), 16 A8 (out), 17 AD0 (io), 18 DRQ0 (in), 19 DRQ1 (in), 20 TMR_IN_0 (in), 21 TMR_IN_1 (in), 22 TMR_OUT_0 (out), 23 TMR_OUT_1 (out), 24 ~{{RES}} (in), 25 ~{{PCS0}} (out), 26 VSS (power), 27 ~{{PCS1}} (out), 28 ~{{PCS2}} (out), 29 ~{{PCS3}} (out), 30 ~{{PCS4}} (out), 31 ~{{PCS5}/A1} (out), 32 ~{{PCS6}/A2} (out), 33 ~{{LCS}} (io), 34 ~{{UCS}} (io), 35 ~{{MCS3}} (out), 36 ~{{MCS2}} (out), 37 ~{{MCS1}} (out), 38 ~{{MCS0}} (out), 39 ~{{DEN}} (out), 40 DT/~{{R}} (out), 41 INT3/~{{INTA1}/IRQ} (io), 42 INT2/~{{INTA0}} (io), 43 VCC (power), 44 INT1/~{{SELECT}} (in), 45 INT0 (in), 46 NMI (in), 47 ~{{TEST}} (io), 48 ~{{LOCK}} (out), 49 SRDY (in), 50 HOLD (in), 51 HLDA (out), 52 ~{{S0}} (out), 53 ~{{S1}} (out), 54 ~{{S2}} (out), 55 ARDY (in), 56 CLKOUT (out), 57 RESET (out), 58 X2 (out), 59 X1 (in), 60 VSS hidden, 61 ALE/QS0 (out), 62 ~{{RD}/}{QSMD} (io), 63 ~{{WR}/QS1} (out), 64 ~{{RFSH}} (out), 65 A19/S6 (out), 66 A18/S5 (out), 67 A17/S4 (out), 68 A16/S3 (out)

## M80C186
designator *  value M80C186
ki_keywords: MPRO; ki_description: CHMOS High-Integration 16-Bit Microprocessor; ki_fp_filters: PLCC* PGA*Layout11x11*P2.54mm* LCC*; Supplier: http://datasheets.chipdb.org/Intel/x86/8018x/datashts/80186/27050008.PDF
pins: 1 AD15 (io), 2 AD7 (io), 3 AD14 (io), 4 AD6 (io), 5 AD13 (io), 6 AD5 (io), 7 AD12 (io), 8 AD4 (io), 9 VCC (power), 10 AD11 (io), 11 AD3 (io), 12 AD10 (io), 13 AD2 (io), 14 AD9 (io), 15 AD1 (io), 16 AD8 (io), 17 AD0 (io), 18 DRQ0 (in), 19 DRQ1 (in), 20 TMR_IN_0 (in), 21 TMR_IN_1 (in), 22 TMR_OUT_0 (out), 23 TMR_OUT_1 (out), 24 ~{{RES}} (in), 25 ~{{PCS0}} (out), 26 VSS (power), 27 ~{{PCS1}} (out), 28 ~{{PCS2}} (out), 29 ~{{PCS3}} (out), 30 ~{{PCS4}} (out), 31 ~{{PCS5}/A1} (out), 32 ~{{PCS6}/A2} (out), 33 ~{{LCS}} (out), 34 ~{{UCS}} (out), 35 ~{{MCS3}/}{NPS} (out), 36 ~{{MCS2}} (out), 37 ~{{MCS1}/}{ERROR} (io), 38 ~{{MCS0}/PEREQ} (io), 39 ~{{DEN}} (out), 40 DT/~{{R}} (out), 41 INT3/~{{INTA1}} (io), 42 INT2/~{{INTA0}} (io), 43 VCC (power), 44 INT1 (in), 45 INT0 (in), 46 NMI (in), 47 ~{{TEST}/BUSY} (in), 48 ~{{LOCK}} (out), 49 SRDY (in), 50 HOLD (in), 51 HLDA (out), 52 ~{{S0}} (out), 53 ~{{S1}} (out), 54 ~{{S2}} (out), 55 ARDY (in), 56 CLKOUT (out), 57 RESET (out), 58 X2 (out), 59 X1 (in), 60 VSS hidden, 61 ALE/QS0 (out), 62 ~{{RD}/}{QSMD} (out), 63 ~{{WR}/QS1} (out), 64 ~{{BHE}} (out), 65 A19/S6 (out), 66 A18/S5 (out), 67 A17/S4 (out), 68 A16/S3 (out)

## M80C186XL
designator *  value M80C186XL
ki_keywords: MPRO; ki_description: 16-Bit High-Integration Embedded Processor; ki_fp_filters: PLCC* PGA*Layout11x11*P2.54mm* LCC*; Supplier: http://datasheets.chipdb.org/Intel/x86/8018x/datashts/80186/27127602.pdf
pins: 1 AD15 (io), 2 AD7 (io), 3 AD14 (io), 4 AD6 (io), 5 AD13 (io), 6 AD5 (io), 7 AD12 (io), 8 AD4 (io), 9 VCC (power), 10 AD11 (io), 11 AD3 (io), 12 AD10 (io), 13 AD2 (io), 14 AD9 (io), 15 AD1 (io), 16 AD8 (io), 17 AD0 (io), 18 DRQ0 (in), 19 DRQ1 (in), 20 TMR_IN_0 (in), 21 TMR_IN_1 (in), 22 TMR_OUT_0 (out), 23 TMR_OUT_1 (out), 24 ~{{RES}} (in), 25 ~{{PCS0}} (out), 26 VSS (power), 27 ~{{PCS1}} (out), 28 ~{{PCS2}} (out), 29 ~{{PCS3}} (out), 30 ~{{PCS4}} (out), 31 ~{{PCS5}/A1} (out), 32 ~{{PCS6}/A2} (out), 33 ~{{LCS}} (io), 34 ~{{UCS}} (io), 35 ~{{MCS3}/}{NPS} (out), 36 ~{{MCS2}} (out), 37 ~{{MCS1}/}{ERROR} (io), 38 ~{{MCS0}/PEREQ} (io), 39 ~{{DEN}} (out), 40 DT/~{{R}} (out), 41 INT3/~{{INTA1}/IRQ} (io), 42 INT2/~{{INTA0}} (io), 43 VCC (power), 44 INT1/~{{SELECT}} (in), 45 INT0 (in), 46 NMI (in), 47 ~{{TEST}/BUSY} (io), 48 ~{{LOCK}} (out), 49 SRDY (in), 50 HOLD (in), 51 HLDA (out), 52 ~{{S0}} (out), 53 ~{{S1}} (out), 54 ~{{S2}} (out), 55 ARDY (in), 56 CLKOUT (out), 57 RESET (out), 58 X2 (out), 59 X1 (in), 60 VSS hidden, 61 ALE/QS0 (out), 62 ~{{RD}/}{QSMD} (io), 63 ~{{WR}/QS1} (out), 64 ~{{BHE}} (out), 65 A19/S6 (out), 66 A18/S5 (out), 67 A17/S4 (out), 68 A16/S3 (out)